# EAGLE library part DIL16/8 (library IC_PACKAGE2)
Dual In Line 8 pins used
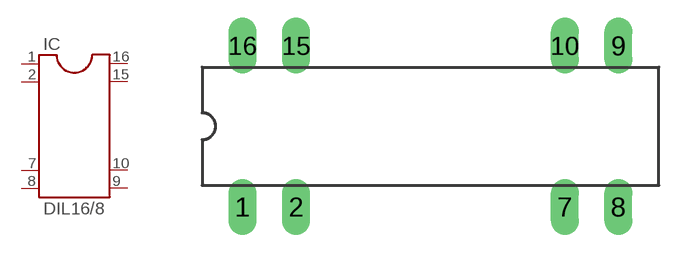
[diagram p15: symbol with the pads of DIL16/8; footprint DIL16/8]

Designator prefix IC

## DIL16/8  [DIL16/8]
1  1  pas
2  2  pas
7  7  pas
8  8  pas
9  9  pas
10  10  pas
15  15  pas
16  16  pas

## Footprint DIL16/8 (pad centres in mm)
Dual In Line Package 8 pins used
drill 0.813 long: 1 -8.89,-3.81; 2 -6.35,-3.81; 7 6.35,-3.81; 8 8.89,-3.81; 9 8.89,3.81; 10 6.35,3.81; 15 -6.35,3.81; 16 -8.89,3.81